# EAGLE library part IRF7416 (library pMOS-FET)
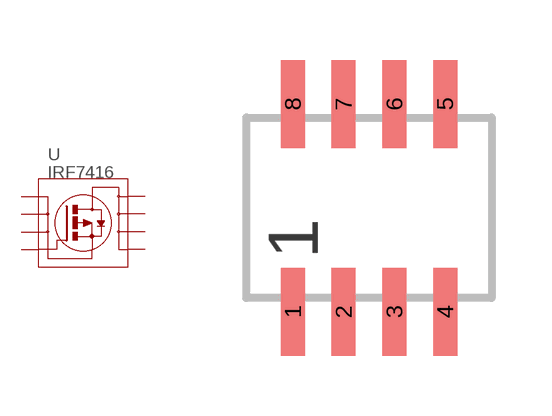
[diagram p0: symbol with the pads of SOP08; footprint SOP08]

Designator prefix -

## IRF7416  [SOP08]
1  S1  out
2  S2  out
3  S3  out
4  G
5  D5  in
6  D6  in
7  D7  in
8  D8  in

## Footprint SOP08 (pad centres in mm)
SMALL OUTLINE PACKAGE
smd 0.6 x 2.2: 1 -1.905,-2.6; 2 -0.635,-2.6; 3 0.635,-2.6; 4 1.905,-2.6; 5 1.905,2.6; 6 0.635,2.6; 7 -0.635,2.6; 8 -1.905,2.6